# Altium integrated library Linear Technology PMIC-Switching Reg LTC1174-LTC3901.IntLib: 2647 symbols (part 65 of 310)
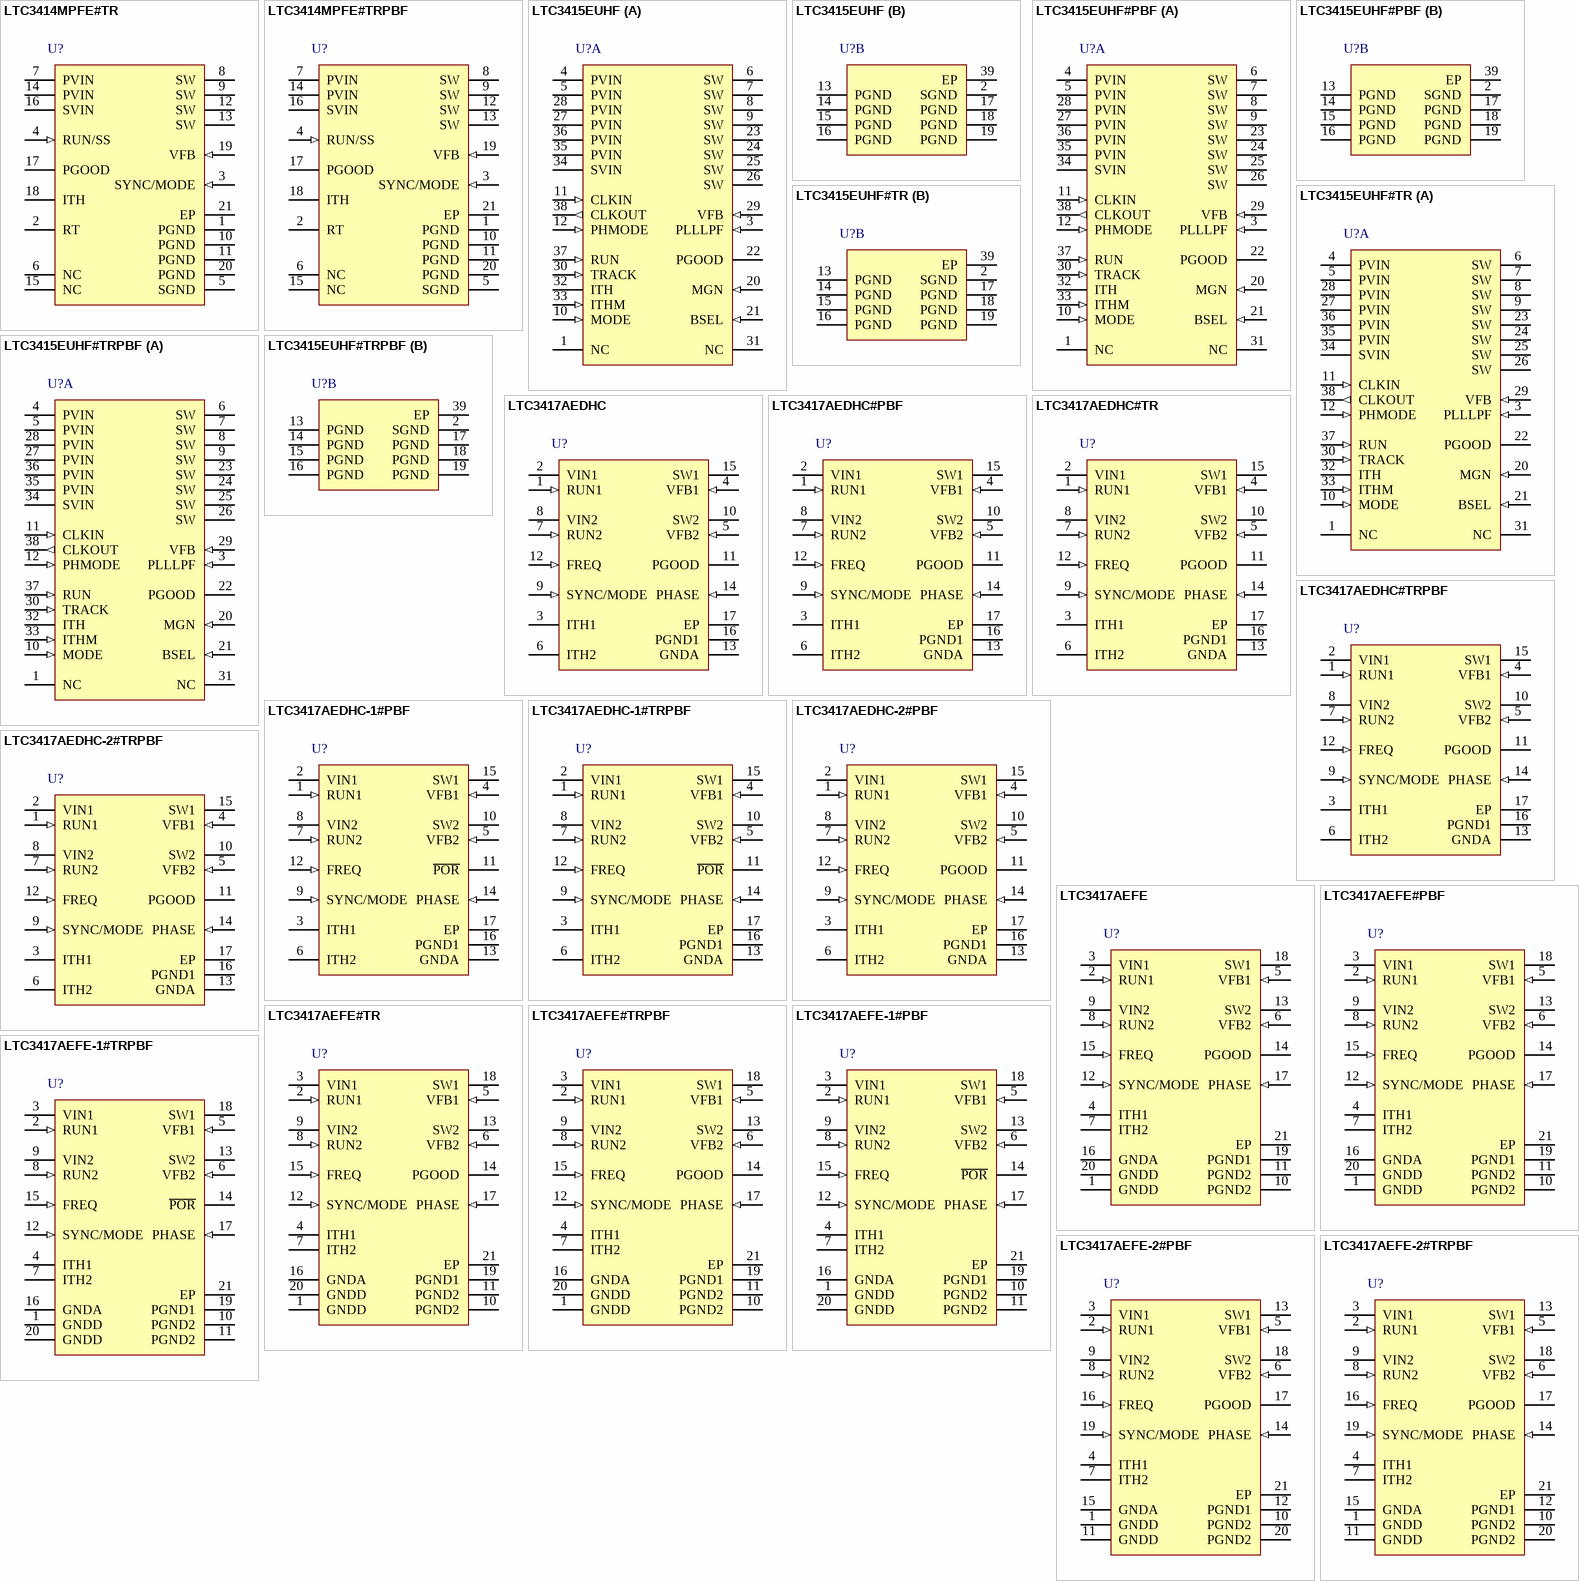
[diagram p153: symbols LTC3414MPFE#TR to LTC3417AEFE-2#TRPBF]

## LTC3414MPFE#TR
designator U?
4 A, 4 MHz, Monolithic Synchronous Step-Down Regulator, 20-pin SOP (FE-20-EPV-CA), -55 to 125 degC, Tape and Reel; Manufacturer: Linear Technology; PartNumber: LTC3414MPFE#TR; Number of Outputs: 1; PackageReference: FE-20; PackageDescription: 20-Pin Plastic TSSOP, Body 6.5 x 4.4 mm, Pitch 0.65 mm; RoHS: FALSE
footprint LT-FE-20-EPV-CA_N (SOP, 20-Leads, Body 6.6x4.5mm, Pitch 0.65mm, Thermal Pad 4.95x2.74mm, IPC Medium Density)
footprint LT-FE-20-EPV-CA_L (SOP, 20-Leads, Body 6.6x4.5mm, Pitch 0.65mm, Thermal Pad 4.95x2.74mm, IPC High Density)
footprint LT-FE-20-EPV-CA_M (SOP, 20-Leads, Body 6.6x4.5mm, Pitch 0.65mm, Thermal Pad 4.95x2.74mm, IPC Low Density)
pins: 1 PGND (power) "Power Ground. Connect this pin closely to the (-) terminal of CIN and COUT.", 2 RT "Oscillator Resistor Input. Connecting a resistor to ground from this pin sets the switching frequency.", 3 SYNC/MODE (in) "Mode Select and External Clock Synchronization Input. To select Forced Continuous, tie to SVIN. Connecting this pin to a voltage between 0V and 1V selects Burst Mode operation with the burst clamp set to the pin voltage.", 4 RUN/SS (in) "Run Control and Soft-Start Input. Forcing this pin below 0.5V shuts down the LTC3414. In shutdown all functions are disabled. Less than 1uA of supply current is consumed. A capacitor to ground from this pin sets the ramp (See Datasheet)", 5 SGND (power) "Signal Ground. All small signal components and compensation components should connect to this ground, which in turn connects to PGND at one point.", 6 NC "Open. No internal connection.", 7 PVIN (power) "Power Input Supply. Decouple this pin to PGND with a capacitor.", 8 SW (power) "Switch Node Connection to Inductor. This pin connects to the drains of the internal main and synchronous power MOSFET switches.", 9 SW (power) "Switch Node Connection to Inductor. This pin connects to the drains of the internal main and synchronous power MOSFET switches.", 10 PGND (power) "Power Ground. Connect this pin closely to the (-) terminal of CIN and COUT.", 11 PGND (power) "Power Ground. Connect this pin closely to the (-) terminal of CIN and COUT.", 12 SW (power) "Switch Node Connection to Inductor. This pin connects to the drains of the internal main and synchronous power MOSFET switches.", 13 SW (power) "Switch Node Connection to Inductor. This pin connects to the drains of the internal main and synchronous power MOSFET switches.", 14 PVIN (power) "Power Input Supply. Decouple this pin to PGND with a capacitor.", 15 NC "Open. No internal connection.", 16 SVIN (power) "Signal Input Supply. Decouple this pin to SGND with a capacitor.", 17 PGOOD (oc) "Power Good Output. Open drain logic output that is pulled to ground when the output voltage is not within +/-7.5% of regulation point.", 18 ITH "Error Amplifier Compensation Point. The current comparator threshold increases with this control voltage. Nominal voltage range for this pin is from 0.2V to 1.4V with 0.4V corresponding to the zero-sense voltage (zero (See Datasheet)", 19 VFB (in) "Feedback Pin. Receives the feedback voltage from a resistive divider connected across the output.", 20 PGND (power) "Power Ground. Connect this pin closely to the (-) terminal of CIN and COUT.", 21 EP (power) "Should be connected to SGND and soldered to the PCB."

## LTC3414MPFE#TRPBF
designator U?
4 A, 4 MHz, Monolithic Synchronous Step-Down Regulator, 20-pin SOP (FE-20-EPV-CA), -55 to 125 degC, Pb-Free, Tape and Reel; Manufacturer: Linear Technology; PartNumber: LTC3414MPFE#TRPBF; Number of Outputs: 1; PackageReference: FE-20; PackageDescription: 20-Pin Plastic TSSOP, Body 6.5 x 4.4 mm, Pitch 0.65 mm; Supplier 1: Digi-Key; Supplier Part Number 1: LTC3414MPFE#TRPBF-ND; RoHS: TRUE
footprint LT-FE-20-EPV-CA_N (SOP, 20-Leads, Body 6.6x4.5mm, Pitch 0.65mm, Thermal Pad 4.95x2.74mm, IPC Medium Density)
footprint LT-FE-20-EPV-CA_L (SOP, 20-Leads, Body 6.6x4.5mm, Pitch 0.65mm, Thermal Pad 4.95x2.74mm, IPC High Density)
footprint LT-FE-20-EPV-CA_M (SOP, 20-Leads, Body 6.6x4.5mm, Pitch 0.65mm, Thermal Pad 4.95x2.74mm, IPC Low Density)
pins: 1 PGND (power) "Power Ground. Connect this pin closely to the (-) terminal of CIN and COUT.", 2 RT "Oscillator Resistor Input. Connecting a resistor to ground from this pin sets the switching frequency.", 3 SYNC/MODE (in) "Mode Select and External Clock Synchronization Input. To select Forced Continuous, tie to SVIN. Connecting this pin to a voltage between 0V and 1V selects Burst Mode operation with the burst clamp set to the pin voltage.", 4 RUN/SS (in) "Run Control and Soft-Start Input. Forcing this pin below 0.5V shuts down the LTC3414. In shutdown all functions are disabled. Less than 1uA of supply current is consumed. A capacitor to ground from this pin sets the ramp (See Datasheet)", 5 SGND (power) "Signal Ground. All small signal components and compensation components should connect to this ground, which in turn connects to PGND at one point.", 6 NC "Open. No internal connection.", 7 PVIN (power) "Power Input Supply. Decouple this pin to PGND with a capacitor.", 8 SW (power) "Switch Node Connection to Inductor. This pin connects to the drains of the internal main and synchronous power MOSFET switches.", 9 SW (power) "Switch Node Connection to Inductor. This pin connects to the drains of the internal main and synchronous power MOSFET switches.", 10 PGND (power) "Power Ground. Connect this pin closely to the (-) terminal of CIN and COUT.", 11 PGND (power) "Power Ground. Connect this pin closely to the (-) terminal of CIN and COUT.", 12 SW (power) "Switch Node Connection to Inductor. This pin connects to the drains of the internal main and synchronous power MOSFET switches.", 13 SW (power) "Switch Node Connection to Inductor. This pin connects to the drains of the internal main and synchronous power MOSFET switches.", 14 PVIN (power) "Power Input Supply. Decouple this pin to PGND with a capacitor.", 15 NC "Open. No internal connection.", 16 SVIN (power) "Signal Input Supply. Decouple this pin to SGND with a capacitor.", 17 PGOOD (oc) "Power Good Output. Open drain logic output that is pulled to ground when the output voltage is not within +/-7.5% of regulation point.", 18 ITH "Error Amplifier Compensation Point. The current comparator threshold increases with this control voltage. Nominal voltage range for this pin is from 0.2V to 1.4V with 0.4V corresponding to the zero-sense voltage (zero (See Datasheet)", 19 VFB (in) "Feedback Pin. Receives the feedback voltage from a resistive divider connected across the output.", 20 PGND (power) "Power Ground. Connect this pin closely to the (-) terminal of CIN and COUT.", 21 EP (power) "Should be connected to SGND and soldered to the PCB."

## LTC3415EUHF
designator U?
7 A, PolyPhase Synchronous Step-Down Regulator, 38-pin QFN (UHF-38), -40 to 85 degC; Manufacturer: Linear Technology; PartNumber: LTC3415EUHF; Number of Outputs: 1; PackageReference: UHF-38; PackageDescription: 38-Pin Plastic QFN, Body 7 x 5 mm, Pitch 0.5 mm; RoHS: FALSE; Code_JEDEC: MO-220
footprint LT-UHF-38_N (QFN, 38-Leads, Body 7.1x5.1mm, Pitch 0.5mm, Thermal Pad 3.15x5.15mm, IPC Medium Density)
footprint LT-UHF-38_L (QFN, 38-Leads, Body 7.1x5.1mm, Pitch 0.5mm, Thermal Pad 3.15x5.15mm, IPC High Density)
footprint LT-UHF-38_M (QFN, 38-Leads, Body 7.1x5.1mm, Pitch 0.5mm, Thermal Pad 3.15x5.15mm, IPC Low Density)
part A pins: 1 NC, 3 PLLLPF (in) "Phase-Locked-Loop Lowpass Filter. The PLL’s lowpass filter is tied to this pin. In spread spectrum mode, placing a capacitor here to SGND controls the slew rate from one frequency to the next. Alternatively, ?o(See Datasheet)", 4 PVIN (power) "Power VIN. Input voltage to the on chip power MOSFETs. Must be closely decoupled to PGND.", 5 PVIN (power) "Power VIN. Input voltage to the on chip power MOSFETs. Must be closely decoupled to PGND.", 6 SW (power) "Switch Node Connection to the Inductor. This pin swings from PVIN to PGND.", 7 SW (power) "Switch Node Connection to the Inductor. This pin swings from PVIN to PGND.", 8 SW (power) "Switch Node Connection to the Inductor. This pin swings from PVIN to PGND.", 9 SW (power) "Switch Node Connection to the Inductor. This pin swings from PVIN to PGND.", 10 MODE (in) "Mode Select Input. Tying this pin high enables Burst Mode operation. Tying this pin low enables force continuous operation. Tying it to VIN/2 enables pulseskipping operation.", 11 CLKIN (in) "External Synchronization Input to Phase Detector. This pin is internally terminated to SGND with a 50k resistor. The phase-locked-loop will force the internal top power PMOS turn on to be synchronized with the rising edge of (See Datasheet)", 12 PHMODE (in) "Phase Selector Input. This pin determines the phase relationship between the internal oscillator and CLKOUT. Tie it high for 2-phase operation, tie it low for 3-phase operation, and tie it to VIN/2 for 4-phase operation.", 20 MGN (in) "Margining Pin. Tying this pin to a voltage between 0.5V and SVIN - 0.5V disables the margining function and allows normal operation. Tying it high enables positive margining (5, 10, or 15%). Tying it low enables negative (See Datasheet)", 21 BSEL (in) "Margining Bit Select Pin. Tying BSEL low selects +/-5%, tying it high selects +/-10%. Tying it to VIN/2 selects +/-15%.", 22 PGOOD (oc) "Output Power GOOD with Open-Drain Logic. PGOOD is pulled to ground when the voltage on the VFB pin is not within +/-10% of its set point. Disabled during margining and during slave mode operation (VFB tied to VIN).", 23 SW (power) "Switch Node Connection to the Inductor. This pin swings from PVIN to PGND.", 24 SW (power) "Switch Node Connection to the Inductor. This pin swings from PVIN to PGND.", 25 SW (power) "Switch Node Connection to the Inductor. This pin swings from PVIN to PGND.", 26 SW (power) "Switch Node Connection to the Inductor. This pin swings from PVIN to PGND.", 27 PVIN (power) "Power VIN. Input voltage to the on chip power MOSFETs. Must be closely decoupled to PGND.", 28 PVIN (power) "Power VIN. Input voltage to the on chip power MOSFETs. Must be closely decoupled to PGND.", 29 VFB (in) "Input to the error ampli?er that compares the feedback voltage to the internal 0.6V reference voltage. This pin is normally connected to a resistive divider from the output voltage. In PolyPhase operation, tying VFB t(See Datasheet)", 30 TRACK (in) "Track Input Pin. This allows the user to control the rise time of the output. Putting a voltage below 0.57V on this pin bypasses the reference input into the error ampli?er and servos the VFB pin to the TRACK voltage(See Datasheet)", 31 NC, 32 ITH "Error Ampli?er Output and Switching Regulator Compensation Point. The current comparator’s threshold increases with this control voltage. The normal voltage range of this pin is from 0V to 1.5V. It’s also the pos(See Datasheet)", 33 ITHM (in) "Negative Input to the Internal ITH Differential Ampli?er. Tie this pin to SGND for single phase operation. For PolyPhase, tie the master’s ITHM to SGND while connecting all of the ITHM pins together.", 34 SVIN (power) "Signal Input Voltage. Connect this pin to PVIN through a 1ohm and 0.1uF lowpass ?lter", 35 PVIN (power) "Power VIN. Input voltage to the on chip power MOSFETs. Must be closely decoupled to PGND.", 36 PVIN (power) "Power VIN. Input voltage to the on chip power MOSFETs. Must be closely decoupled to PGND.", 37 RUN (in) "Run Control Input. Tying this pin above 1.5V turns on the part.", 38 CLKOUT (out) "Output Clock Signal for PolyPhase Operation. The phase of CLKOUT is determined by the state of the PHMODE pin."
part B pins: 2 SGND (power) "Signal Ground. Return ground path for all analog and low power circuitry. Single connection to PGND on system board.", 13 PGND (power) "Power Ground. Return path of internal N-channel power MOSFETs. Connect this pin with the (-) terminals of CIN and COUT.", 14 PGND (power) "Power Ground. Return path of internal N-channel power MOSFETs. Connect this pin with the (-) terminals of CIN and COUT.", 15 PGND (power) "Power Ground. Return path of internal N-channel power MOSFETs. Connect this pin with the (-) terminals of CIN and COUT.", 16 PGND (power) "Power Ground. Return path of internal N-channel power MOSFETs. Connect this pin with the (-) terminals of CIN and COUT.", 17 PGND (power) "Power Ground. Return path of internal N-channel power MOSFETs. Connect this pin with the (-) terminals of CIN and COUT.", 18 PGND (power) "Power Ground. Return path of internal N-channel power MOSFETs. Connect this pin with the (-) terminals of CIN and COUT.", 19 PGND (power) "Power Ground. Return path of internal N-channel power MOSFETs. Connect this pin with the (-) terminals of CIN and COUT.", 39 EP (power) "Power Ground. Must be connected to electrical ground on PCB."

## LTC3415EUHF#PBF
designator U?
7 A, PolyPhase Synchronous Step-Down Regulator, 38-pin QFN (UHF-38), -40 to 85 degC, Pb-Free; Manufacturer: Linear Technology; PartNumber: LTC3415EUHF#PBF; Number of Outputs: 1; PackageReference: UHF-38; PackageDescription: 38-Pin Plastic QFN, Body 7 x 5 mm, Pitch 0.5 mm; Supplier 1: Digi-Key; Supplier Part Number 1: LTC3415EUHF#PBF-ND; RoHS: TRUE; Code_JEDEC: MO-220
footprint LT-UHF-38_N (QFN, 38-Leads, Body 7.1x5.1mm, Pitch 0.5mm, Thermal Pad 3.15x5.15mm, IPC Medium Density)
footprint LT-UHF-38_L (QFN, 38-Leads, Body 7.1x5.1mm, Pitch 0.5mm, Thermal Pad 3.15x5.15mm, IPC High Density)
footprint LT-UHF-38_M (QFN, 38-Leads, Body 7.1x5.1mm, Pitch 0.5mm, Thermal Pad 3.15x5.15mm, IPC Low Density)
part A pins: 1 NC, 3 PLLLPF (in) "Phase-Locked-Loop Lowpass Filter. The PLL’s lowpass filter is tied to this pin. In spread spectrum mode, placing a capacitor here to SGND controls the slew rate from one frequency to the next. Alternatively, ?o(See Datasheet)", 4 PVIN (power) "Power VIN. Input voltage to the on chip power MOSFETs. Must be closely decoupled to PGND.", 5 PVIN (power) "Power VIN. Input voltage to the on chip power MOSFETs. Must be closely decoupled to PGND.", 6 SW (power) "Switch Node Connection to the Inductor. This pin swings from PVIN to PGND.", 7 SW (power) "Switch Node Connection to the Inductor. This pin swings from PVIN to PGND.", 8 SW (power) "Switch Node Connection to the Inductor. This pin swings from PVIN to PGND.", 9 SW (power) "Switch Node Connection to the Inductor. This pin swings from PVIN to PGND.", 10 MODE (in) "Mode Select Input. Tying this pin high enables Burst Mode operation. Tying this pin low enables force continuous operation. Tying it to VIN/2 enables pulseskipping operation.", 11 CLKIN (in) "External Synchronization Input to Phase Detector. This pin is internally terminated to SGND with a 50k resistor. The phase-locked-loop will force the internal top power PMOS turn on to be synchronized with the rising edge of (See Datasheet)", 12 PHMODE (in) "Phase Selector Input. This pin determines the phase relationship between the internal oscillator and CLKOUT. Tie it high for 2-phase operation, tie it low for 3-phase operation, and tie it to VIN/2 for 4-phase operation.", 20 MGN (in) "Margining Pin. Tying this pin to a voltage between 0.5V and SVIN - 0.5V disables the margining function and allows normal operation. Tying it high enables positive margining (5, 10, or 15%). Tying it low enables negative (See Datasheet)", 21 BSEL (in) "Margining Bit Select Pin. Tying BSEL low selects +/-5%, tying it high selects +/-10%. Tying it to VIN/2 selects +/-15%.", 22 PGOOD (oc) "Output Power GOOD with Open-Drain Logic. PGOOD is pulled to ground when the voltage on the VFB pin is not within +/-10% of its set point. Disabled during margining and during slave mode operation (VFB tied to VIN).", 23 SW (power) "Switch Node Connection to the Inductor. This pin swings from PVIN to PGND.", 24 SW (power) "Switch Node Connection to the Inductor. This pin swings from PVIN to PGND.", 25 SW (power) "Switch Node Connection to the Inductor. This pin swings from PVIN to PGND.", 26 SW (power) "Switch Node Connection to the Inductor. This pin swings from PVIN to PGND.", 27 PVIN (power) "Power VIN. Input voltage to the on chip power MOSFETs. Must be closely decoupled to PGND.", 28 PVIN (power) "Power VIN. Input voltage to the on chip power MOSFETs. Must be closely decoupled to PGND.", 29 VFB (in) "Input to the error ampli?er that compares the feedback voltage to the internal 0.6V reference voltage. This pin is normally connected to a resistive divider from the output voltage. In PolyPhase operation, tying VFB t(See Datasheet)", 30 TRACK (in) "Track Input Pin. This allows the user to control the rise time of the output. Putting a voltage below 0.57V on this pin bypasses the reference input into the error ampli?er and servos the VFB pin to the TRACK voltage(See Datasheet)", 31 NC, 32 ITH "Error Ampli?er Output and Switching Regulator Compensation Point. The current comparator’s threshold increases with this control voltage. The normal voltage range of this pin is from 0V to 1.5V. It’s also the pos(See Datasheet)", 33 ITHM (in) "Negative Input to the Internal ITH Differential Ampli?er. Tie this pin to SGND for single phase operation. For PolyPhase, tie the master’s ITHM to SGND while connecting all of the ITHM pins together.", 34 SVIN (power) "Signal Input Voltage. Connect this pin to PVIN through a 1ohm and 0.1uF lowpass ?lter", 35 PVIN (power) "Power VIN. Input voltage to the on chip power MOSFETs. Must be closely decoupled to PGND.", 36 PVIN (power) "Power VIN. Input voltage to the on chip power MOSFETs. Must be closely decoupled to PGND.", 37 RUN (in) "Run Control Input. Tying this pin above 1.5V turns on the part.", 38 CLKOUT (out) "Output Clock Signal for PolyPhase Operation. The phase of CLKOUT is determined by the state of the PHMODE pin."
part B pins: 2 SGND (power) "Signal Ground. Return ground path for all analog and low power circuitry. Single connection to PGND on system board.", 13 PGND (power) "Power Ground. Return path of internal N-channel power MOSFETs. Connect this pin with the (-) terminals of CIN and COUT.", 14 PGND (power) "Power Ground. Return path of internal N-channel power MOSFETs. Connect this pin with the (-) terminals of CIN and COUT.", 15 PGND (power) "Power Ground. Return path of internal N-channel power MOSFETs. Connect this pin with the (-) terminals of CIN and COUT.", 16 PGND (power) "Power Ground. Return path of internal N-channel power MOSFETs. Connect this pin with the (-) terminals of CIN and COUT.", 17 PGND (power) "Power Ground. Return path of internal N-channel power MOSFETs. Connect this pin with the (-) terminals of CIN and COUT.", 18 PGND (power) "Power Ground. Return path of internal N-channel power MOSFETs. Connect this pin with the (-) terminals of CIN and COUT.", 19 PGND (power) "Power Ground. Return path of internal N-channel power MOSFETs. Connect this pin with the (-) terminals of CIN and COUT.", 39 EP (power) "Power Ground. Must be connected to electrical ground on PCB."

## LTC3415EUHF#TR
designator U?
7 A, PolyPhase Synchronous Step-Down Regulator, 38-pin QFN (UHF-38), -40 to 85 degC, Tape and Reel; Manufacturer: Linear Technology; PartNumber: LTC3415EUHF#TR; Number of Outputs: 1; PackageReference: UHF-38; PackageDescription: 38-Pin Plastic QFN, Body 7 x 5 mm, Pitch 0.5 mm; RoHS: FALSE; Code_JEDEC: MO-220
footprint LT-UHF-38_N (QFN, 38-Leads, Body 7.1x5.1mm, Pitch 0.5mm, Thermal Pad 3.15x5.15mm, IPC Medium Density)
footprint LT-UHF-38_L (QFN, 38-Leads, Body 7.1x5.1mm, Pitch 0.5mm, Thermal Pad 3.15x5.15mm, IPC High Density)
footprint LT-UHF-38_M (QFN, 38-Leads, Body 7.1x5.1mm, Pitch 0.5mm, Thermal Pad 3.15x5.15mm, IPC Low Density)
part A pins: 1 NC, 3 PLLLPF (in) "Phase-Locked-Loop Lowpass Filter. The PLL’s lowpass filter is tied to this pin. In spread spectrum mode, placing a capacitor here to SGND controls the slew rate from one frequency to the next. Alternatively, ?o(See Datasheet)", 4 PVIN (power) "Power VIN. Input voltage to the on chip power MOSFETs. Must be closely decoupled to PGND.", 5 PVIN (power) "Power VIN. Input voltage to the on chip power MOSFETs. Must be closely decoupled to PGND.", 6 SW (power) "Switch Node Connection to the Inductor. This pin swings from PVIN to PGND.", 7 SW (power) "Switch Node Connection to the Inductor. This pin swings from PVIN to PGND.", 8 SW (power) "Switch Node Connection to the Inductor. This pin swings from PVIN to PGND.", 9 SW (power) "Switch Node Connection to the Inductor. This pin swings from PVIN to PGND.", 10 MODE (in) "Mode Select Input. Tying this pin high enables Burst Mode operation. Tying this pin low enables force continuous operation. Tying it to VIN/2 enables pulseskipping operation.", 11 CLKIN (in) "External Synchronization Input to Phase Detector. This pin is internally terminated to SGND with a 50k resistor. The phase-locked-loop will force the internal top power PMOS turn on to be synchronized with the rising edge of (See Datasheet)", 12 PHMODE (in) "Phase Selector Input. This pin determines the phase relationship between the internal oscillator and CLKOUT. Tie it high for 2-phase operation, tie it low for 3-phase operation, and tie it to VIN/2 for 4-phase operation.", 20 MGN (in) "Margining Pin. Tying this pin to a voltage between 0.5V and SVIN - 0.5V disables the margining function and allows normal operation. Tying it high enables positive margining (5, 10, or 15%). Tying it low enables negative (See Datasheet)", 21 BSEL (in) "Margining Bit Select Pin. Tying BSEL low selects +/-5%, tying it high selects +/-10%. Tying it to VIN/2 selects +/-15%.", 22 PGOOD (oc) "Output Power GOOD with Open-Drain Logic. PGOOD is pulled to ground when the voltage on the VFB pin is not within +/-10% of its set point. Disabled during margining and during slave mode operation (VFB tied to VIN).", 23 SW (power) "Switch Node Connection to the Inductor. This pin swings from PVIN to PGND.", 24 SW (power) "Switch Node Connection to the Inductor. This pin swings from PVIN to PGND.", 25 SW (power) "Switch Node Connection to the Inductor. This pin swings from PVIN to PGND.", 26 SW (power) "Switch Node Connection to the Inductor. This pin swings from PVIN to PGND.", 27 PVIN (power) "Power VIN. Input voltage to the on chip power MOSFETs. Must be closely decoupled to PGND.", 28 PVIN (power) "Power VIN. Input voltage to the on chip power MOSFETs. Must be closely decoupled to PGND.", 29 VFB (in) "Input to the error ampli?er that compares the feedback voltage to the internal 0.6V reference voltage. This pin is normally connected to a resistive divider from the output voltage. In PolyPhase operation, tying VFB t(See Datasheet)", 30 TRACK (in) "Track Input Pin. This allows the user to control the rise time of the output. Putting a voltage below 0.57V on this pin bypasses the reference input into the error ampli?er and servos the VFB pin to the TRACK voltage(See Datasheet)", 31 NC, 32 ITH "Error Ampli?er Output and Switching Regulator Compensation Point. The current comparator’s threshold increases with this control voltage. The normal voltage range of this pin is from 0V to 1.5V. It’s also the pos(See Datasheet)", 33 ITHM (in) "Negative Input to the Internal ITH Differential Ampli?er. Tie this pin to SGND for single phase operation. For PolyPhase, tie the master’s ITHM to SGND while connecting all of the ITHM pins together.", 34 SVIN (power) "Signal Input Voltage. Connect this pin to PVIN through a 1ohm and 0.1uF lowpass ?lter", 35 PVIN (power) "Power VIN. Input voltage to the on chip power MOSFETs. Must be closely decoupled to PGND.", 36 PVIN (power) "Power VIN. Input voltage to the on chip power MOSFETs. Must be closely decoupled to PGND.", 37 RUN (in) "Run Control Input. Tying this pin above 1.5V turns on the part.", 38 CLKOUT (out) "Output Clock Signal for PolyPhase Operation. The phase of CLKOUT is determined by the state of the PHMODE pin."
part B pins: 2 SGND (power) "Signal Ground. Return ground path for all analog and low power circuitry. Single connection to PGND on system board.", 13 PGND (power) "Power Ground. Return path of internal N-channel power MOSFETs. Connect this pin with the (-) terminals of CIN and COUT.", 14 PGND (power) "Power Ground. Return path of internal N-channel power MOSFETs. Connect this pin with the (-) terminals of CIN and COUT.", 15 PGND (power) "Power Ground. Return path of internal N-channel power MOSFETs. Connect this pin with the (-) terminals of CIN and COUT.", 16 PGND (power) "Power Ground. Return path of internal N-channel power MOSFETs. Connect this pin with the (-) terminals of CIN and COUT.", 17 PGND (power) "Power Ground. Return path of internal N-channel power MOSFETs. Connect this pin with the (-) terminals of CIN and COUT.", 18 PGND (power) "Power Ground. Return path of internal N-channel power MOSFETs. Connect this pin with the (-) terminals of CIN and COUT.", 19 PGND (power) "Power Ground. Return path of internal N-channel power MOSFETs. Connect this pin with the (-) terminals of CIN and COUT.", 39 EP (power) "Power Ground. Must be connected to electrical ground on PCB."

## LTC3415EUHF#TRPBF
designator U?
7 A, PolyPhase Synchronous Step-Down Regulator, 38-pin QFN (UHF-38), -40 to 85 degC, Pb-Free, Tape and Reel; Manufacturer: Linear Technology; PartNumber: LTC3415EUHF#TRPBF; Number of Outputs: 1; PackageReference: UHF-38; PackageDescription: 38-Pin Plastic QFN, Body 7 x 5 mm, Pitch 0.5 mm; Supplier 1: Digi-Key; Supplier Part Number 1: LTC3415EUHF#TRPBF-ND; RoHS: TRUE; Code_JEDEC: MO-220
footprint LT-UHF-38_N (QFN, 38-Leads, Body 7.1x5.1mm, Pitch 0.5mm, Thermal Pad 3.15x5.15mm, IPC Medium Density)
footprint LT-UHF-38_L (QFN, 38-Leads, Body 7.1x5.1mm, Pitch 0.5mm, Thermal Pad 3.15x5.15mm, IPC High Density)
footprint LT-UHF-38_M (QFN, 38-Leads, Body 7.1x5.1mm, Pitch 0.5mm, Thermal Pad 3.15x5.15mm, IPC Low Density)
part A pins: 1 NC, 3 PLLLPF (in) "Phase-Locked-Loop Lowpass Filter. The PLL’s lowpass filter is tied to this pin. In spread spectrum mode, placing a capacitor here to SGND controls the slew rate from one frequency to the next. Alternatively, ?o(See Datasheet)", 4 PVIN (power) "Power VIN. Input voltage to the on chip power MOSFETs. Must be closely decoupled to PGND.", 5 PVIN (power) "Power VIN. Input voltage to the on chip power MOSFETs. Must be closely decoupled to PGND.", 6 SW (power) "Switch Node Connection to the Inductor. This pin swings from PVIN to PGND.", 7 SW (power) "Switch Node Connection to the Inductor. This pin swings from PVIN to PGND.", 8 SW (power) "Switch Node Connection to the Inductor. This pin swings from PVIN to PGND.", 9 SW (power) "Switch Node Connection to the Inductor. This pin swings from PVIN to PGND.", 10 MODE (in) "Mode Select Input. Tying this pin high enables Burst Mode operation. Tying this pin low enables force continuous operation. Tying it to VIN/2 enables pulseskipping operation.", 11 CLKIN (in) "External Synchronization Input to Phase Detector. This pin is internally terminated to SGND with a 50k resistor. The phase-locked-loop will force the internal top power PMOS turn on to be synchronized with the rising edge of (See Datasheet)", 12 PHMODE (in) "Phase Selector Input. This pin determines the phase relationship between the internal oscillator and CLKOUT. Tie it high for 2-phase operation, tie it low for 3-phase operation, and tie it to VIN/2 for 4-phase operation.", 20 MGN (in) "Margining Pin. Tying this pin to a voltage between 0.5V and SVIN - 0.5V disables the margining function and allows normal operation. Tying it high enables positive margining (5, 10, or 15%). Tying it low enables negative (See Datasheet)", 21 BSEL (in) "Margining Bit Select Pin. Tying BSEL low selects +/-5%, tying it high selects +/-10%. Tying it to VIN/2 selects +/-15%.", 22 PGOOD (oc) "Output Power GOOD with Open-Drain Logic. PGOOD is pulled to ground when the voltage on the VFB pin is not within +/-10% of its set point. Disabled during margining and during slave mode operation (VFB tied to VIN).", 23 SW (power) "Switch Node Connection to the Inductor. This pin swings from PVIN to PGND.", 24 SW (power) "Switch Node Connection to the Inductor. This pin swings from PVIN to PGND.", 25 SW (power) "Switch Node Connection to the Inductor. This pin swings from PVIN to PGND.", 26 SW (power) "Switch Node Connection to the Inductor. This pin swings from PVIN to PGND.", 27 PVIN (power) "Power VIN. Input voltage to the on chip power MOSFETs. Must be closely decoupled to PGND.", 28 PVIN (power) "Power VIN. Input voltage to the on chip power MOSFETs. Must be closely decoupled to PGND.", 29 VFB (in) "Input to the error ampli?er that compares the feedback voltage to the internal 0.6V reference voltage. This pin is normally connected to a resistive divider from the output voltage. In PolyPhase operation, tying VFB t(See Datasheet)", 30 TRACK (in) "Track Input Pin. This allows the user to control the rise time of the output. Putting a voltage below 0.57V on this pin bypasses the reference input into the error ampli?er and servos the VFB pin to the TRACK voltage(See Datasheet)", 31 NC, 32 ITH "Error Ampli?er Output and Switching Regulator Compensation Point. The current comparator’s threshold increases with this control voltage. The normal voltage range of this pin is from 0V to 1.5V. It’s also the pos(See Datasheet)", 33 ITHM (in) "Negative Input to the Internal ITH Differential Ampli?er. Tie this pin to SGND for single phase operation. For PolyPhase, tie the master’s ITHM to SGND while connecting all of the ITHM pins together.", 34 SVIN (power) "Signal Input Voltage. Connect this pin to PVIN through a 1ohm and 0.1uF lowpass ?lter", 35 PVIN (power) "Power VIN. Input voltage to the on chip power MOSFETs. Must be closely decoupled to PGND.", 36 PVIN (power) "Power VIN. Input voltage to the on chip power MOSFETs. Must be closely decoupled to PGND.", 37 RUN (in) "Run Control Input. Tying this pin above 1.5V turns on the part.", 38 CLKOUT (out) "Output Clock Signal for PolyPhase Operation. The phase of CLKOUT is determined by the state of the PHMODE pin."
part B pins: 2 SGND (power) "Signal Ground. Return ground path for all analog and low power circuitry. Single connection to PGND on system board.", 13 PGND (power) "Power Ground. Return path of internal N-channel power MOSFETs. Connect this pin with the (-) terminals of CIN and COUT.", 14 PGND (power) "Power Ground. Return path of internal N-channel power MOSFETs. Connect this pin with the (-) terminals of CIN and COUT.", 15 PGND (power) "Power Ground. Return path of internal N-channel power MOSFETs. Connect this pin with the (-) terminals of CIN and COUT.", 16 PGND (power) "Power Ground. Return path of internal N-channel power MOSFETs. Connect this pin with the (-) terminals of CIN and COUT.", 17 PGND (power) "Power Ground. Return path of internal N-channel power MOSFETs. Connect this pin with the (-) terminals of CIN and COUT.", 18 PGND (power) "Power Ground. Return path of internal N-channel power MOSFETs. Connect this pin with the (-) terminals of CIN and COUT.", 19 PGND (power) "Power Ground. Return path of internal N-channel power MOSFETs. Connect this pin with the (-) terminals of CIN and COUT.", 39 EP (power) "Power Ground. Must be connected to electrical ground on PCB."

## LTC3417AEDHC
designator U?
Dual Synchronous 1.5 A / 1 A 4 MHz Step-Down DC/DC Regulator, 16-pin SON (DHC-16), -40 to 85 degC; Manufacturer: Linear Technology; PartNumber: LTC3417AEDHC; Number of Outputs: 2; PackageReference: DHC-16; PackageDescription: 16-Pin Plastic DFN, Body 5 x 3 mm, Pitch 0.5 mm; RoHS: FALSE; Code_JEDEC: MO-229
footprint LT-DHC-16_V (SON, 16-Leads, Body 5x3mm, Pitch 0.5mm, Thermal Pad 4.4X1.65mm)
pins: 1 RUN1 (in) "Enable for 1.5A Regulator. When at Logic 1, 1.5A regulator is running. When at 0V, 1.5A regulator is off. When both RUN1 and RUN2 are at 0V, the part is in shutdown.", 2 VIN1 (power) "Supply Pin for P-Channel Switch of 1.5A Regulator.", 3 ITH1 "Error Amplifier Compensation Point for 1.5A Regulator. The current comparator threshold increases with this control voltage. Nominal voltage range for this pin is 0V to 1.5V.", 4 VFB1 (in) "Receives the feedback voltage from external resistive divider across the 1.5A regulator output. Nominal voltage for this pin is 0.8V", 5 VFB2 (in) "Receives the feedback voltage from external resistive divider across the 1A regulator output. Nominal voltage for this pin is 0.8V.", 6 ITH2 "Error Amplifier Compensation Point for 1A regulator. The current comparator threshold increases with this control voltage. Nominal voltage range for this pin is 0V to 1.5V.", 7 RUN2 (in) "Enable for 1A Regulator. When at Logic 1, 1A regulator is running. When at 0V, 1A regulator is off. When both RUN1 and RUN2 are at 0V, the part is in shutdown", 8 VIN2 (power) "Supply Pin for P-Channel Switch of 1A Regulator and Supply for Analog Circuitry.", 9 SYNC/MODE (in) "Combination Mode Selection and Oscillator Synchronization Pin. This pin controls the operation of the device. When the voltage on the SYNC/MODE pin is >(VIN - 0.5V), Burst Mode operation is selected. When the voltage on the (See Datasheet)", 10 SW2 (power) "Switch Node Connection to the Inductor for the 1A Regulator. This pin swings from VIN2 to PGND2.", 11 PGOOD (oc) "Power Good Pin. This common drain-logic output is pulled to GND when the output voltage of either regulator is - 6% of regulation. If either RUN1 or RUN2 is low (the respective regulator is in sleep mode and therefore the (See Datasheet)", 12 FREQ (in) "Frequency Set Pin. When FREQ is at VIN, internal oscillator runs at 1.5MHz. When a resistor is connected from this pin to ground, the internal oscillator frequency can be varied from 0.6MHz to 4MHz.", 13 GNDA (power) "Analog Ground Pin for Internal Analog Circuitry.", 14 PHASE (in) "Selects 1A regulator switching phase with respect to 1.5A regulator switching. Set to VIN, the 1.5A regulator and the 1A regulator are in phase. When PHASE is at 0V, the 1.5A regulator and the 1A regulator are switching 180 (See Datasheet)", 15 SW1 (power) "Switch Node Connection to the Inductor for the 1.5A Regulator. This pin swings from VIN1 to PGND1.", 16 PGND1 (power) "Ground for SW1 N-Channel Driver.", 17 EP (power) "PGND2, GNDD. Ground for SW2 N-channel driver and digital ground for circuit. The Exposed Pad must be soldered to PCB ground."

## LTC3417AEDHC#PBF
designator U?
Dual Synchronous 1.5 A / 1 A 4 MHz Step-Down DC/DC Regulator, 16-pin SON (DHC-16), -40 to 85 degC, Pb-Free; Manufacturer: Linear Technology; PartNumber: LTC3417AEDHC#PBF; Number of Outputs: 2; PackageReference: DHC-16; PackageDescription: 16-Pin Plastic DFN, Body 5 x 3 mm, Pitch 0.5 mm; Supplier 1: Digi-Key; Supplier Part Number 1: LTC3417AEDHC#PBF-ND; RoHS: TRUE; Code_JEDEC: MO-229
footprint LT-DHC-16_V (SON, 16-Leads, Body 5x3mm, Pitch 0.5mm, Thermal Pad 4.4X1.65mm)
pins: 1 RUN1 (in) "Enable for 1.5A Regulator. When at Logic 1, 1.5A regulator is running. When at 0V, 1.5A regulator is off. When both RUN1 and RUN2 are at 0V, the part is in shutdown.", 2 VIN1 (power) "Supply Pin for P-Channel Switch of 1.5A Regulator.", 3 ITH1 "Error Amplifier Compensation Point for 1.5A Regulator. The current comparator threshold increases with this control voltage. Nominal voltage range for this pin is 0V to 1.5V.", 4 VFB1 (in) "Receives the feedback voltage from external resistive divider across the 1.5A regulator output. Nominal voltage for this pin is 0.8V", 5 VFB2 (in) "Receives the feedback voltage from external resistive divider across the 1A regulator output. Nominal voltage for this pin is 0.8V.", 6 ITH2 "Error Amplifier Compensation Point for 1A regulator. The current comparator threshold increases with this control voltage. Nominal voltage range for this pin is 0V to 1.5V.", 7 RUN2 (in) "Enable for 1A Regulator. When at Logic 1, 1A regulator is running. When at 0V, 1A regulator is off. When both RUN1 and RUN2 are at 0V, the part is in shutdown", 8 VIN2 (power) "Supply Pin for P-Channel Switch of 1A Regulator and Supply for Analog Circuitry.", 9 SYNC/MODE (in) "Combination Mode Selection and Oscillator Synchronization Pin. This pin controls the operation of the device. When the voltage on the SYNC/MODE pin is >(VIN - 0.5V), Burst Mode operation is selected. When the voltage on the (See Datasheet)", 10 SW2 (power) "Switch Node Connection to the Inductor for the 1A Regulator. This pin swings from VIN2 to PGND2.", 11 PGOOD (oc) "Power Good Pin. This common drain-logic output is pulled to GND when the output voltage of either regulator is - 6% of regulation. If either RUN1 or RUN2 is low (the respective regulator is in sleep mode and therefore the (See Datasheet)", 12 FREQ (in) "Frequency Set Pin. When FREQ is at VIN, internal oscillator runs at 1.5MHz. When a resistor is connected from this pin to ground, the internal oscillator frequency can be varied from 0.6MHz to 4MHz.", 13 GNDA (power) "Analog Ground Pin for Internal Analog Circuitry.", 14 PHASE (in) "Selects 1A regulator switching phase with respect to 1.5A regulator switching. Set to VIN, the 1.5A regulator and the 1A regulator are in phase. When PHASE is at 0V, the 1.5A regulator and the 1A regulator are switching 180 (See Datasheet)", 15 SW1 (power) "Switch Node Connection to the Inductor for the 1.5A Regulator. This pin swings from VIN1 to PGND1.", 16 PGND1 (power) "Ground for SW1 N-Channel Driver.", 17 EP (power) "PGND2, GNDD. Ground for SW2 N-channel driver and digital ground for circuit. The Exposed Pad must be soldered to PCB ground."

## LTC3417AEDHC#TR
designator U?
Dual Synchronous 1.5 A / 1 A 4 MHz Step-Down DC/DC Regulator, 16-pin SON (DHC-16), -40 to 85 degC, Tape and Reel; Manufacturer: Linear Technology; PartNumber: LTC3417AEDHC#TR; Number of Outputs: 2; PackageReference: DHC-16; PackageDescription: 16-Pin Plastic DFN, Body 5 x 3 mm, Pitch 0.5 mm; RoHS: FALSE; Code_JEDEC: MO-229
footprint LT-DHC-16_V (SON, 16-Leads, Body 5x3mm, Pitch 0.5mm, Thermal Pad 4.4X1.65mm)
pins: 1 RUN1 (in) "Enable for 1.5A Regulator. When at Logic 1, 1.5A regulator is running. When at 0V, 1.5A regulator is off. When both RUN1 and RUN2 are at 0V, the part is in shutdown.", 2 VIN1 (power) "Supply Pin for P-Channel Switch of 1.5A Regulator.", 3 ITH1 "Error Amplifier Compensation Point for 1.5A Regulator. The current comparator threshold increases with this control voltage. Nominal voltage range for this pin is 0V to 1.5V.", 4 VFB1 (in) "Receives the feedback voltage from external resistive divider across the 1.5A regulator output. Nominal voltage for this pin is 0.8V", 5 VFB2 (in) "Receives the feedback voltage from external resistive divider across the 1A regulator output. Nominal voltage for this pin is 0.8V.", 6 ITH2 "Error Amplifier Compensation Point for 1A regulator. The current comparator threshold increases with this control voltage. Nominal voltage range for this pin is 0V to 1.5V.", 7 RUN2 (in) "Enable for 1A Regulator. When at Logic 1, 1A regulator is running. When at 0V, 1A regulator is off. When both RUN1 and RUN2 are at 0V, the part is in shutdown", 8 VIN2 (power) "Supply Pin for P-Channel Switch of 1A Regulator and Supply for Analog Circuitry.", 9 SYNC/MODE (in) "Combination Mode Selection and Oscillator Synchronization Pin. This pin controls the operation of the device. When the voltage on the SYNC/MODE pin is >(VIN - 0.5V), Burst Mode operation is selected. When the voltage on the (See Datasheet)", 10 SW2 (power) "Switch Node Connection to the Inductor for the 1A Regulator. This pin swings from VIN2 to PGND2.", 11 PGOOD (oc) "Power Good Pin. This common drain-logic output is pulled to GND when the output voltage of either regulator is - 6% of regulation. If either RUN1 or RUN2 is low (the respective regulator is in sleep mode and therefore the (See Datasheet)", 12 FREQ (in) "Frequency Set Pin. When FREQ is at VIN, internal oscillator runs at 1.5MHz. When a resistor is connected from this pin to ground, the internal oscillator frequency can be varied from 0.6MHz to 4MHz.", 13 GNDA (power) "Analog Ground Pin for Internal Analog Circuitry.", 14 PHASE (in) "Selects 1A regulator switching phase with respect to 1.5A regulator switching. Set to VIN, the 1.5A regulator and the 1A regulator are in phase. When PHASE is at 0V, the 1.5A regulator and the 1A regulator are switching 180 (See Datasheet)", 15 SW1 (power) "Switch Node Connection to the Inductor for the 1.5A Regulator. This pin swings from VIN1 to PGND1.", 16 PGND1 (power) "Ground for SW1 N-Channel Driver.", 17 EP (power) "PGND2, GNDD. Ground for SW2 N-channel driver and digital ground for circuit. The Exposed Pad must be soldered to PCB ground."

## LTC3417AEDHC#TRPBF
designator U?
Dual Synchronous 1.5 A / 1 A 4 MHz Step-Down DC/DC Regulator, 16-pin SON (DHC-16), -40 to 85 degC, Pb-Free, Tape and Reel; Manufacturer: Linear Technology; PartNumber: LTC3417AEDHC#TRPBF; Number of Outputs: 2; PackageReference: DHC-16; PackageDescription: 16-Pin Plastic DFN, Body 5 x 3 mm, Pitch 0.5 mm; Supplier 1: Digi-Key; Supplier Part Number 1: LTC3417AEDHC#TRPBF-ND; RoHS: TRUE; Code_JEDEC: MO-229
footprint LT-DHC-16_V (SON, 16-Leads, Body 5x3mm, Pitch 0.5mm, Thermal Pad 4.4X1.65mm)
pins: 1 RUN1 (in) "Enable for 1.5A Regulator. When at Logic 1, 1.5A regulator is running. When at 0V, 1.5A regulator is off. When both RUN1 and RUN2 are at 0V, the part is in shutdown.", 2 VIN1 (power) "Supply Pin for P-Channel Switch of 1.5A Regulator.", 3 ITH1 "Error Amplifier Compensation Point for 1.5A Regulator. The current comparator threshold increases with this control voltage. Nominal voltage range for this pin is 0V to 1.5V.", 4 VFB1 (in) "Receives the feedback voltage from external resistive divider across the 1.5A regulator output. Nominal voltage for this pin is 0.8V", 5 VFB2 (in) "Receives the feedback voltage from external resistive divider across the 1A regulator output. Nominal voltage for this pin is 0.8V.", 6 ITH2 "Error Amplifier Compensation Point for 1A regulator. The current comparator threshold increases with this control voltage. Nominal voltage range for this pin is 0V to 1.5V.", 7 RUN2 (in) "Enable for 1A Regulator. When at Logic 1, 1A regulator is running. When at 0V, 1A regulator is off. When both RUN1 and RUN2 are at 0V, the part is in shutdown", 8 VIN2 (power) "Supply Pin for P-Channel Switch of 1A Regulator and Supply for Analog Circuitry.", 9 SYNC/MODE (in) "Combination Mode Selection and Oscillator Synchronization Pin. This pin controls the operation of the device. When the voltage on the SYNC/MODE pin is >(VIN - 0.5V), Burst Mode operation is selected. When the voltage on the (See Datasheet)", 10 SW2 (power) "Switch Node Connection to the Inductor for the 1A Regulator. This pin swings from VIN2 to PGND2.", 11 PGOOD (oc) "Power Good Pin. This common drain-logic output is pulled to GND when the output voltage of either regulator is - 6% of regulation. If either RUN1 or RUN2 is low (the respective regulator is in sleep mode and therefore the (See Datasheet)", 12 FREQ (in) "Frequency Set Pin. When FREQ is at VIN, internal oscillator runs at 1.5MHz. When a resistor is connected from this pin to ground, the internal oscillator frequency can be varied from 0.6MHz to 4MHz.", 13 GNDA (power) "Analog Ground Pin for Internal Analog Circuitry.", 14 PHASE (in) "Selects 1A regulator switching phase with respect to 1.5A regulator switching. Set to VIN, the 1.5A regulator and the 1A regulator are in phase. When PHASE is at 0V, the 1.5A regulator and the 1A regulator are switching 180 (See Datasheet)", 15 SW1 (power) "Switch Node Connection to the Inductor for the 1.5A Regulator. This pin swings from VIN1 to PGND1.", 16 PGND1 (power) "Ground for SW1 N-Channel Driver.", 17 EP (power) "PGND2, GNDD. Ground for SW2 N-channel driver and digital ground for circuit. The Exposed Pad must be soldered to PCB ground."

## LTC3417AEDHC-1#PBF
designator U?
Dual Synchronous 1.5 A / 1 A 4 MHz Step-Down DC/DC Regulator with POR, 16-pin SON (DHC-16), -40 to 85 degC, Pb-Free; Manufacturer: Linear Technology; PartNumber: LTC3417AEDHC-1#PBF; Number of Outputs: 2; PackageReference: DHC-16; PackageDescription: 16-Pin Plastic DFN, Body 5 x 3 mm, Pitch 0.5 mm; Supplier 1: Digi-Key; Supplier Part Number 1: LTC3417AEDHC-1#PBF-ND; RoHS: TRUE; Code_JEDEC: MO-229
footprint LT-DHC-16_V (SON, 16-Leads, Body 5x3mm, Pitch 0.5mm, Thermal Pad 4.4X1.65mm)
pins: 1 RUN1 (in) "Enable for 1.5A Regulator. When at Logic 1, 1.5A regulator is running. When at 0V, 1.5A regulator is off. When both RUN1 and RUN2 are at 0V, the part is in shutdown.", 2 VIN1 (power) "Supply Pin for P-Channel Switch of 1.5A Regulator.", 3 ITH1 "Error Amplifier Compensation Point for 1.5A Regulator. The current comparator threshold increases with this control voltage. Nominal voltage range for this pin is 0V to 1.5V.", 4 VFB1 (in) "Receives the feedback voltage from external resistive divider across the 1.5A regulator output. Nominal voltage for this pin is 0.8V.", 5 VFB2 (in) "Receives the feedback voltage from external resistive divider across the 1A regulator output. Nominal voltage for this pin is 0.8V.", 6 ITH2 "Error Amplifier Compensation Point for 1A regulator. The current comparator threshold increases with this control voltage. Nominal voltage range for this pin is 0V to 1.5V.", 7 RUN2 (in) "Enable for 1A Regulator. When at Logic 1, 1A regulator is running. When at 0V, 1A regulator is off. When both RUN1 and RUN2 are at 0V, the part is in shutdown.", 8 VIN2 (power) "Supply Pin for P-Channel Switch of 1A Regulator and Supply for Analog Circuitry.", 9 SYNC/MODE (in) "Combination Mode Selection and Oscillator Synchronization Pin. This pin controls the operation of the device. When the voltage on the SYNC/MODE pin is >(VIN - 0.5V), Burst Mode operation is selected. When the voltage on the (See Datasheet)", 10 SW2 (power) "Switch Node Connection to the Inductor for the 1A Regulator. This pin swings from VIN2 to PGND2.", 11 ~{POR} (oc) "The Power-On-Reset Pin. This open drain-logic output is pulled to GND when the output voltage of either regulator falls 8% below regulation and goes high approximately 150ms after both regulators are above -6% of regulation. (See Datasheet)", 12 FREQ (in) "Frequency Set Pin. When FREQ is at VIN, internal oscillator runs at 1.5MHz. When a resistor is connected from this pin to ground, the internal oscillator frequency can be varied from 0.6MHz to 4MHz.", 13 GNDA (power) "Analog Ground Pin for Internal Analog Circuitry.", 14 PHASE (in) "Selects 1A regulator switching phase with respect to 1.5A regulator switching. Set to VIN, the 1.5A regulator and the 1A regulator are in phase. When PHASE is at 0V, the 1.5A regulator and the 1A regulator are switching 180 (See Datasheet)", 15 SW1 (power) "Switch Node Connection to the Inductor for the 1.5A Regulator. This pin swings from VIN1 to PGND1", 16 PGND1 (power) "Ground for SW1 N-Channel Driver.", 17 EP (power) "PGND2, GNDD. Ground for SW2 N-channel driver and digital ground for circuit. The Exposed Pad must be soldered to PCB ground"